# EAGLE library part OPA4209AIPW (library puggleboard)
OPERATIONAL AMPLIFIER
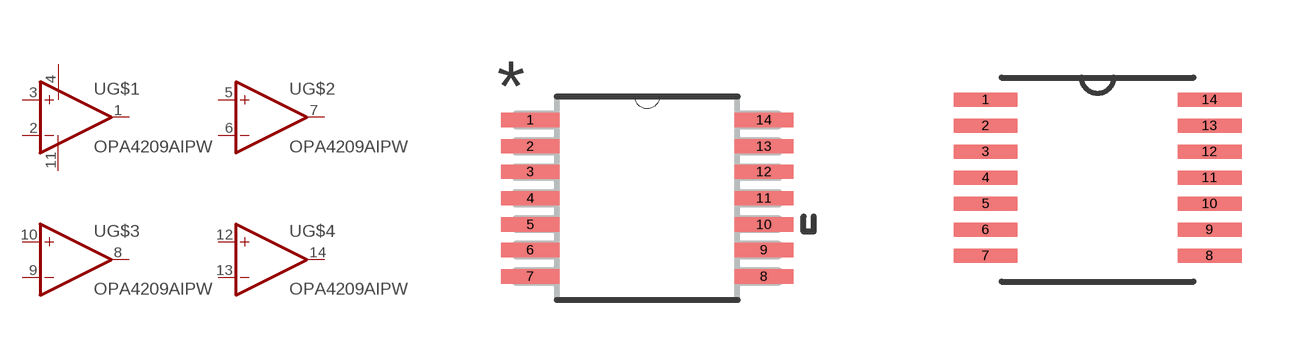
[diagram p14: symbol with the pads of SOP65P640X120-14N; footprints SOP65P640X120-14N, SOP65P640X120-14N-MOD]

Designator prefix U; gates G$1=OPAMP G$2=OPAMP G$3=OPAMP G$4=OPAMP G$5=PWR+-

## OPA4209AIPW (MPN: OPA4209AIPW; OC_FARNELL: 1862578; OC_NEWARK: 21T3846; PACKAGE: TSSOP-14; SUPPLIER: TEXAS INSTRUMENTS)  [SOP65P640X120-14N]
1  G$1:OUT  out
2  G$1:-IN  in
3  G$1:+IN  in
4  G$5:V+  in
5  G$2:+IN  in
6  G$2:-IN  in
7  G$2:OUT  out
8  G$3:OUT  out
9  G$3:-IN  in
10  G$3:+IN  in
11  G$5:V-  in
12  G$4:+IN  in
13  G$4:-IN  in
14  G$4:OUT  out

## OPA4209AIPWMOD  [SOP65P640X120-14N-MOD]
Pads as for SOP65P640X120-14N

## Footprint SOP65P640X120-14N (pad centres in mm)
smd 1.473 x 0.356: 1 -2.921,1.956; 2 -2.921,1.295; 3 -2.921,0.66; 4 -2.921,0; 5 -2.921,-0.66; 6 -2.921,-1.295; 7 -2.921,-1.956; 8 2.921,-1.956; 9 2.921,-1.295; 10 2.921,-0.66; 11 2.921,0; 12 2.921,0.66; 13 2.921,1.295; 14 2.921,1.956

## Footprint SOP65P640X120-14N-MOD (pad centres in mm)
smd 1.6 x 0.35: 1 -2.8,1.95; 2 -2.8,1.3; 3 -2.8,0.65; 4 -2.8,0; 5 -2.8,-0.65; 6 -2.8,-1.3; 7 -2.8,-1.95; 8 2.8,-1.95; 9 2.8,-1.3; 10 2.8,-0.65; 11 2.8,0; 12 2.8,0.65; 13 2.8,1.3; 14 2.8,1.95